# EAGLE library part MAX6627 (library ICs)
Remote ±1°C Accurate Digital Temperature Sensors with SPI-Compatible Serial Interface
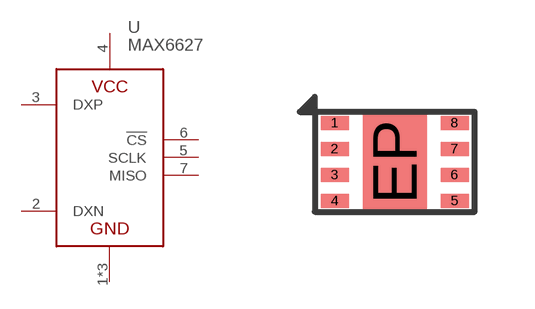
[diagram p276: symbol with the pads of TDFNEP8; footprint TDFNEP8]

Designator prefix U

## MAX6627MTA+T (DIGIKEY: MAX6627MTA+TCT-ND; HEIGHT: 1; PRICE_PER: 3.93; VALUE: MAX6627)  [TDFNEP8]
1  GND
2  DXN
3  DXP
4  VCC
5  SCLK
6  !CS
7  MISO
8  GND
EP  GND

## Footprint TDFNEP8 (pad centres in mm)
smd 0.7 x 0.35: 1 -1.5,0.975; 2 -1.5,0.325; 3 -1.5,-0.325; 4 -1.5,-0.975; 5 1.5,-0.975; 6 1.5,-0.325; 7 1.5,0.325; 8 1.5,0.975
smd 1.6 x 2.35: EP 0,0